# Altium schematic symbol library NUP1105LT1G.SchLib: 1 symbol
Pins are listed as number, name and electrical type; pins without a type are passive.

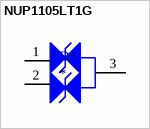
[diagram p0: symbol NUP1105LT1G]

## NUP1105LT1G
designator D?
pins: 1 K, 2 K, 3 K